# Altium schematic symbol library HX1188NLT.Schlib: 1 symbol
Pins are listed as number, name and electrical type; pins without a type are passive.

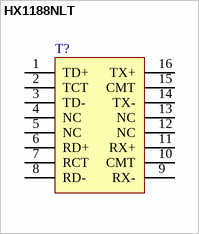
[diagram p0: symbol HX1188NLT]

## HX1188NLT
designator T?
10/100 350uH -1.0dB insertion loss
pins: 1 TD+, 2 TCT, 3 TD-, 4 NC, 5 NC, 6 RD+, 7 RCT, 8 RD-, 9 RX-, 10 CMT, 11 RX+, 12 NC, 13 NC, 14 TX-, 15 CMT, 16 TX+